# Altium footprint library WE-TVS.PcbLib: 13 footprints
Each footprint in its own frame and in the unit in brackets; x right, y up, seen from the top. Pads: shape width x height; smd on the part's side, far side on the other; paste and mask are expansions set on the pad; w line width, h text height; cw(c..) or ccw(c..) is an arc to the next point about the centre after c.
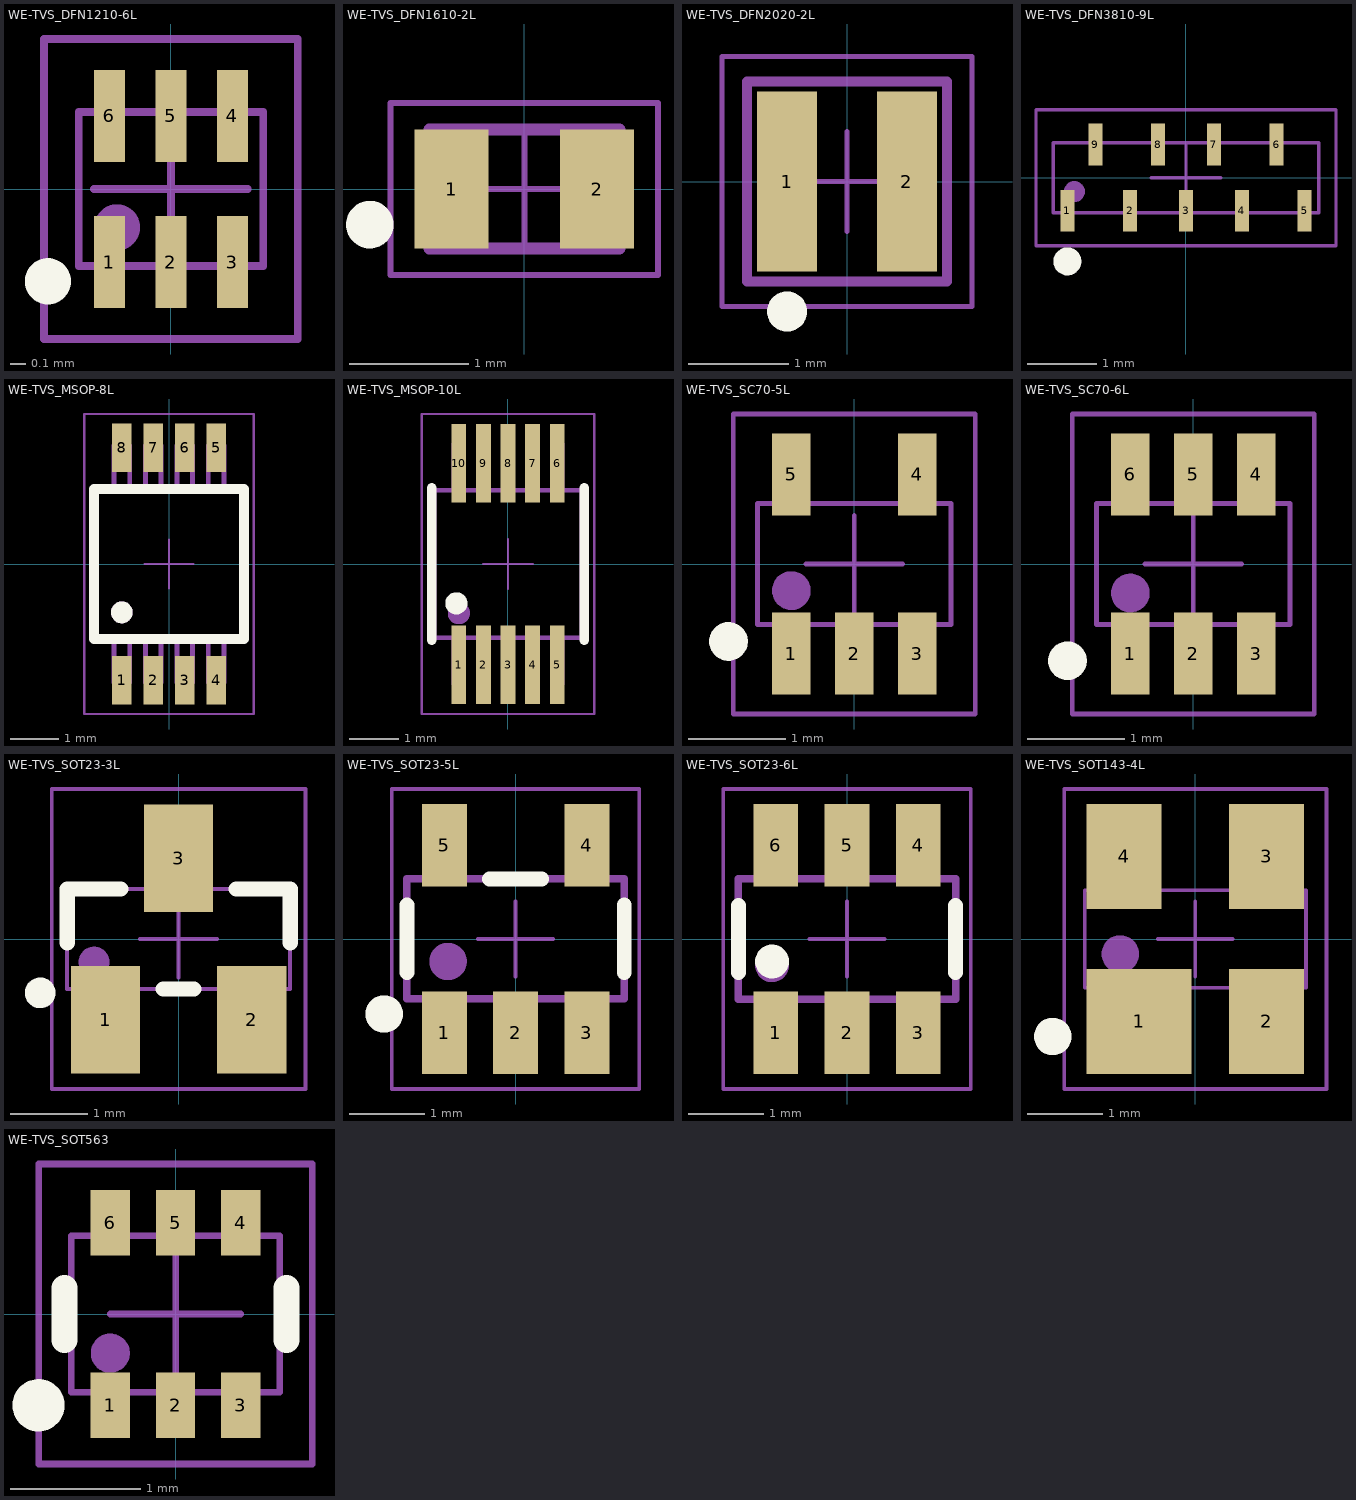
[diagram p0: the footprints below, top view; thin cyan lines are the x and y axes]

## WE-TVS_DFN1210-6L [mm] "TVS Diode, package DFN1210-6L"
height 0.49
pads (6):
  rect 0.2x0.6 smd: 1(-0.4,-0.475) 2(0,-0.475) 3(0.4,-0.475) 4(0.4,0.475) 5(0,0.475) 6(-0.4,0.475)
Top Overlay:
  circle w0.2: c-0.8,-0.6 r0.05
Mechanical 13:
  circle w0.2: c-0.35,-0.25 r0.05
  lines w0.05: -0.6,-0.5 0.6,-0.5 0.6,0.5 -0.6,0.5 -0.6,-0.5
Mechanical 15:
  lines w0.05: -0.5,0 0.5,0 ; 0,-0.5 0,0.5 ; -0.825,-0.975 0.825,-0.975 0.825,0.975 -0.825,0.975 -0.825,-0.975
3D body "STEP-WE-TVS-DFN1210-6L-rev1.stp": height 0.45, standoff 0, extent -0.6,-0.5 0.6,0.5

## WE-TVS_DFN1610-2L [mm] "TVS Diode, package DFN1610-2L"
height 0.55
pads (2):
  rect 0.625x1 smd: 1(-0.613,0) 2(0.613,0)
Top Overlay:
  circle w0.2: c-1.3,-0.3 r0.1
Mechanical 13:
  circle w0.15: c-0.5,-0.2 r0.075
  lines w0.1: 0.8,-0.5 -0.8,-0.5 -0.8,0.5 0.8,0.5 0.8,-0.5
Mechanical 15:
  lines w0.05: -0.5,0 0.5,0 ; 0,-0.5 0,0.5 ; -1.125,-0.725 -1.125,0.725 1.125,0.725 1.125,-0.725 -1.125,-0.725
3D body "STEP-WE-TVS-DFN1610-2L-rev1.stp": height 0.51, standoff 0, extent -0.8,-0.5 0.8,0.5

## WE-TVS_DFN2020-2L [mm] "TVS Diode, package DFN2020-2L"
height 0.55
pads (2):
  rect 0.6x1.8 smd: 1(-0.6,0) 2(0.6,0)
Top Overlay:
  circle w0.2: c-0.6,-1.3 r0.1
Mechanical 13:
  circle w0.2: c-0.6,-0.6 r0.1
  lines w0.1: -1,-1 1,-1 1,1 -1,1 -1,-1
Mechanical 15:
  lines w0.05: -0.5,0 0.5,0 ; 0,-0.5 0,0.5 ; -1.25,-1.25 1.25,-1.25 1.25,1.25 -1.25,1.25 -1.25,-1.25
3D body "DFN2020-2L.stp": height 0.52, standoff 0, extent -1,-1 1,1

## WE-TVS_DFN3810-9L [mm] "TVS Diode, package DFN3810-9L"
height 0.55
pads (9):
  rect 0.2x0.6 smd: 1(-1.7,-0.475) 2(-0.8,-0.475) 3(0,-0.475) 4(0.8,-0.475) 5(1.7,-0.475) 6(1.3,0.475) 7(0.4,0.475) 8(-0.4,0.475) 9(-1.3,0.475)
Top Overlay:
  circle w0.2: c-1.7,-1.2 r0.1
Mechanical 13:
  circle w0.15: c-1.6,-0.2 r0.075
  lines w0.05: -1.9,-0.5 1.9,-0.5 1.9,0.5 -1.9,0.5 -1.9,-0.5
Mechanical 15:
  lines w0.05: -0.5,0 0.5,0 ; 0,-0.5 0,0.5 ; -2.15,-0.975 -2.15,0.975 2.15,0.975 2.15,-0.975 -2.15,-0.975
3D body "STEP-WE-TVS-DFN3810-9L-rev1.stp": height 0.5, standoff 0, extent -1.9,-0.5 1.9,0.5

## WE-TVS_MSOP-8L [mm] "TVS Diode, package MSOP-8L"
height 1.15
pads (8):
  rect 0.4x1 smd: 1(-0.975,-2.4) 2(-0.325,-2.4) 3(0.325,-2.4) 4(0.975,-2.4) 5(0.975,2.4) 6(0.325,2.4) 7(-0.325,2.4) 8(-0.975,2.4)
Top Overlay:
  circle w0.25: c-0.975,-1 r0.1
  lines w0.2: -1.55,-1.55 -1.55,1.55 1.55,1.55 1.55,-1.55 -1.55,-1.55
Mechanical 13:
  circle w0.25: c-0.975,-1 r0.1
  lines w0.1: -1.137,-1.5 -1.137,-2.45 -0.813,-2.45 -0.813,-1.5 ; -1.137,1.5 -1.137,2.45 -0.813,2.45 -0.813,1.5 ; -0.487,-1.5 -0.487,-2.45 -0.162,-2.45 -0.162,-1.5 ; -0.487,1.5 -0.487,2.45 -0.162,2.45 -0.162,1.5 ; 0.163,-1.5 0.163,-2.45 0.487,-2.45 0.487,-1.5 ; 0.163,1.5 0.163,2.45 0.487,2.45 0.487,1.5 ; 0.813,-1.5 0.813,-2.45 1.138,-2.45 1.138,-1.5 ; 0.813,1.5 0.813,2.45 1.138,2.45 1.138,1.5 ; -1.5,-1.5 1.5,-1.5 1.5,1.5 -1.5,1.5 -1.5,-1.5
Mechanical 15:
  lines w0.05: -0.5,0 0.5,0 ; 0,-0.5 0,0.5 ; -1.75,-3.1 1.75,-3.1 1.75,3.1 -1.75,3.1 -1.75,-3.1
3D body "STEP-WE-TVS-SS-MSOP-8L-rev1.stp": height 0.97, standoff -0.01, extent -1.5,-2.45 1.5,2.45

## WE-TVS_MSOP-10L [mm] "TVS Diode, package MSOP-10L"
height 1.15
pads (10):
  rect 0.3x1.6 smd: 1(-1,-2.05) 2(-0.5,-2.05) 3(0,-2.05) 4(0.5,-2.05) 5(1,-2.05) 6(1,2.05) 7(0.5,2.05) 8(0,2.05) 9(-0.5,2.05) 10(-1,2.05)
Top Overlay:
  circle w0.25: c-1.05,-0.8 r0.1
  lines w0.2: -1.55,-1.55 -1.55,1.55 ; 1.55,-1.55 1.55,1.55
Mechanical 13:
  circle w0.25: c-1,-1 r0.1
  lines w0.05: -1.12,-1.5 -1.12,-2.45 -0.88,-2.45 -0.88,-1.5 ; -1.12,1.5 -1.12,2.45 -0.88,2.45 -0.88,1.5 ; -0.62,-1.5 -0.62,-2.45 -0.38,-2.45 -0.38,-1.5 ; -0.62,1.5 -0.62,2.45 -0.38,2.45 -0.38,1.5 ; -0.12,-1.5 -0.12,-2.45 0.12,-2.45 0.12,-1.5 ; -0.12,1.5 -0.12,2.45 0.12,2.45 0.12,1.5 ; 0.38,-1.5 0.38,-2.45 0.62,-2.45 0.62,-1.5 ; 0.38,1.5 0.38,2.45 0.62,2.45 0.62,1.5 ; 0.88,-1.5 0.88,-2.45 1.12,-2.45 1.12,-1.5 ; 0.88,1.5 0.88,2.45 1.12,2.45 1.12,1.5
  lines w0.1: -1.5,-1.5 1.5,-1.5 1.5,1.5 -1.5,1.5 -1.5,-1.5
Mechanical 15:
  lines w0.05: -0.5,0 0.5,0 ; 0,-0.5 0,0.5 ; -1.75,-3.05 1.75,-3.05 1.75,3.05 -1.75,3.05 -1.75,-3.05
3D body "STEP-WE-TVS-SS-MSOP-10L-rev1.stp": height 0.97, standoff -0.01, extent -1.5,-2.45 1.5,2.45

## WE-TVS_SC70-5L [mm] "TVS Diode, package SC70-5L"
height 1.1
pads (5):
  rect 0.4x0.85 smd: 1(-0.65,-0.925) 2(0,-0.925) 3(0.65,-0.925) 4(0.65,0.925) 5(-0.65,0.925)
Top Overlay:
  circle w0.2: c-1.3,-0.8 r0.1
Mechanical 13:
  circle w0.2: c-0.65,-0.275 r0.1
  lines w0.05: -0.8,-0.625 -0.8,-1.1 -0.5,-1.1 -0.5,-0.625 ; -0.8,0.625 -0.8,1.1 -0.5,1.1 -0.5,0.625 ; -0.15,-0.625 -0.15,-1.1 0.15,-1.1 0.15,-0.625 ; 0.5,-0.625 0.5,-1.1 0.8,-1.1 0.8,-0.625 ; 0.5,0.625 0.5,1.1 0.8,1.1 0.8,0.625 ; -1,-0.625 1,-0.625 1,0.625 -1,0.625 -1,-0.625
Mechanical 15:
  lines w0.05: -0.5,0 0.5,0 ; 0,-0.5 0,0.5 ; -1.25,-1.55 -1.25,1.55 1.25,1.55 1.25,-1.55 -1.25,-1.55
3D body "STEP-WE-TVS-SC70-5L-rev1.stp": height 1, standoff 0, extent -1,-1.1 1,1.1

## WE-TVS_SC70-6L [mm] "TVS Diode, package SC70-6L"
height 1.1
pads (6):
  rect 0.4x0.85 smd: 1(-0.65,-0.925) 2(0,-0.925) 3(0.65,-0.925) 4(0.65,0.925) 5(0,0.925) 6(-0.65,0.925)
Top Overlay:
  circle w0.2: c-1.3,-1 r0.1
Mechanical 13:
  circle w0.2: c-0.65,-0.3 r0.1
  lines w0.05: -0.8,-0.625 -0.8,-1.1 -0.5,-1.1 -0.5,-0.625 ; -0.8,0.625 -0.8,1.1 -0.5,1.1 -0.5,0.625 ; -0.15,-0.625 -0.15,-1.1 0.15,-1.1 0.15,-0.625 ; -0.15,0.625 -0.15,1.1 0.15,1.1 0.15,0.625 ; 0.5,-0.625 0.5,-1.1 0.8,-1.1 0.8,-0.625 ; 0.5,0.625 0.5,1.1 0.8,1.1 0.8,0.625 ; -1,-0.625 1,-0.625 1,0.625 -1,0.625 -1,-0.625
Mechanical 15:
  lines w0.05: -0.5,0 0.5,0 ; 0,-0.5 0,0.5 ; -1.25,-1.55 1.25,-1.55 1.25,1.55 -1.25,1.55 -1.25,-1.55
3D body "STEP-WE-TVS-HS-SC70-6L-rev1.stp": height 1, standoff 0, extent -1,-1.1 1,1.1

## WE-TVS_SOT23-3L [mm] "TVS Diode, package SOT23-3L"
height 1.2
pads (3):
  rect 0.9x1.4 smd: 1(-0.95,-1.05) 2(0.95,-1.05) 3(0,1.05)
Top Overlay:
  circle w0.2: c-1.8,-0.7 r0.1
  lines w0.2: -1.45,-0.05 -1.45,0.65 -0.75,0.65 ; -0.2,-0.65 0.2,-0.65 ; 0.75,0.65 1.45,0.65 1.45,-0.05
Mechanical 13:
  circle w0.2: c-1.1,-0.3 r0.1
  lines w0.05: -1.15,-0.65 -1.15,-1.2 -0.75,-1.2 -0.75,-0.65 ; -0.2,0.65 -0.2,1.2 0.2,1.2 0.2,0.65 ; 0.75,-0.65 0.75,-1.2 1.15,-1.2 1.15,-0.65 ; -1.45,-0.65 1.45,-0.65 1.45,0.65 -1.45,0.65 -1.45,-0.65
Mechanical 15:
  lines w0.05: -0.5,0 0.5,0 ; 0,-0.5 0,0.5 ; -1.65,-1.95 1.65,-1.95 1.65,1.95 -1.65,1.95 -1.65,-1.95
3D body "STEP-WE-TVS-SOT23-3L-rev1.stp": height 1.04, standoff 0, extent -1.45,-1.2 1.45,1.2

## WE-TVS_SOT23-5L [mm] "TVS Diode, package SOT23-5L"
height 1.2
pads (5):
  rect 0.6x1.1 smd: 1(-0.95,-1.25) 2(0,-1.25) 3(0.95,-1.25) 4(0.95,1.25) 5(-0.95,1.25)
Top Overlay:
  circle w0.3: c-1.75,-1 r0.1
  lines w0.2: -1.45,-0.45 -1.45,0.45 ; -0.35,0.8 0.35,0.8 ; 1.45,-0.45 1.45,0.45
Mechanical 13:
  circle w0.3: c-0.9,-0.3 r0.1
  lines w0.1: -1.15,-0.8 -1.15,-1.4 -0.75,-1.4 -0.75,-0.8 ; -1.15,0.8 -1.15,1.4 -0.75,1.4 -0.75,0.8 ; -0.2,-0.8 -0.2,-1.4 0.2,-1.4 0.2,-0.8 ; 0.75,-0.8 0.75,-1.4 1.15,-1.4 1.15,-0.8 ; 0.75,0.8 0.75,1.4 1.15,1.4 1.15,0.8 ; -1.45,-0.8 -1.45,0.8 1.45,0.8 1.45,-0.8 -1.45,-0.8
Mechanical 15:
  lines w0.05: -0.5,0 0.5,0 ; 0,-0.5 0,0.5 ; -1.65,-2 1.65,-2 1.65,2 -1.65,2 -1.65,-2
3D body "STEP-WE-TVS-HS-SOT23-5L-rev1.stp": height 1.16, standoff 0, extent -1.45,-1.4 1.45,1.4

## WE-TVS_SOT23-6L [mm] "TVS Diode, package SOT23-6L"
height 1.2
pads (6):
  rect 0.6x1.1 smd: 1(-0.95,-1.25) 2(0,-1.25) 3(0.95,-1.25) 4(0.95,1.25) 5(0,1.25) 6(-0.95,1.25)
Top Overlay:
  circle w0.25: c-1,-0.3 r0.1
  lines w0.2: -1.45,-0.45 -1.45,0.45 ; 1.45,-0.45 1.45,0.45
Mechanical 13:
  circle w0.25: c-1,-0.35 r0.1
  lines w0.1: -1.15,-0.8 -1.15,-1.4 -0.75,-1.4 -0.75,-0.8 ; -1.15,0.8 -1.15,1.4 -0.75,1.4 -0.75,0.8 ; -0.2,-0.8 -0.2,-1.4 0.2,-1.4 0.2,-0.8 ; -0.2,0.8 -0.2,1.4 0.2,1.4 0.2,0.8 ; 0.75,-0.8 0.75,-1.4 1.15,-1.4 1.15,-0.8 ; 0.75,0.8 0.75,1.4 1.15,1.4 1.15,0.8 ; -1.45,-0.8 -1.45,0.8 1.45,0.8 1.45,-0.8 -1.45,-0.8
Mechanical 15:
  lines w0.05: -0.5,0 0.5,0 ; 0,-0.5 0,0.5 ; -1.65,-2 1.65,-2 1.65,2 -1.65,2 -1.65,-2
3D body "STEP-WE-TVS-SS-SOT23-6L-rev1.stp": height 1.16, standoff 0, extent -1.45,-1.4 1.45,1.4

## WE-TVS_SOT143-4L [mm] "TVS Diode, package SOT143-4L"
height 1.2
pads (4):
  rect 1.4x1.4 smd: 1(-0.75,-1.1)
  rect 1x1.4 smd: 2(0.95,-1.1) 3(0.95,1.1) 4(-0.95,1.1)
Top Overlay:
  circle w0.3: c-1.9,-1.3 r0.1
Mechanical 13:
  circle w0.3: c-1,-0.2 r0.1
  lines w0.05: -1.162,-0.65 -1.162,-1.2 -0.337,-1.2 -0.337,-0.65 ; -1.162,0.65 -1.162,1.2 -0.738,1.2 -0.738,0.65 ; 0.737,-0.65 0.737,-1.2 1.162,-1.2 1.162,-0.65 ; 0.737,0.65 0.737,1.2 1.162,1.2 1.162,0.65 ; -1.475,-0.65 -1.475,0.65 1.475,0.65 1.475,-0.65 -1.475,-0.65
Mechanical 15:
  lines w0.05: -0.5,0 0.5,0 ; 0,-0.5 0,0.5 ; -1.75,-2 -1.75,2 1.75,2 1.75,-2 -1.75,-2
3D body "STEP-WE-TVS-HS-SOT143-4L-rev1.stp": height 1.05, standoff -0.01, extent -1.46,-1.2 1.46,1.2

## WE-TVS_SOT563 [mm] "TVS Diode, package SOT563"
height 0.6
pads (6):
  rect 0.3x0.5 smd: 1(-0.5,-0.7) 2(0,-0.7) 3(0.5,-0.7) 4(0.5,0.7) 5(0,0.7) 6(-0.5,0.7)
Top Overlay:
  circle w0.2: c-1.05,-0.7 r0.1
  lines w0.2: -0.85,-0.2 -0.85,0.2 ; 0.85,-0.2 0.85,0.2
Mechanical 13:
  circle w0.15: c-0.5,-0.3 r0.075
  lines w0.05: -0.61,-0.6 -0.61,-0.8 -0.39,-0.8 -0.39,-0.6 ; -0.61,0.6 -0.61,0.8 -0.39,0.8 -0.39,0.6 ; -0.11,-0.6 -0.11,-0.8 0.11,-0.8 0.11,-0.6 ; -0.11,0.6 -0.11,0.8 0.11,0.8 0.11,0.6 ; 0.39,-0.6 0.39,-0.8 0.61,-0.8 0.61,-0.6 ; 0.39,0.6 0.39,0.8 0.61,0.8 0.61,0.6 ; -0.8,-0.6 -0.8,0.6 0.8,0.6 0.8,-0.6 -0.8,-0.6
Mechanical 15:
  lines w0.05: -0.5,0 0.5,0 ; 0,-0.5 0,0.5 ; -1.05,-1.15 -1.05,1.15 1.05,1.15 1.05,-1.15 -1.05,-1.15
3D body "STEP-WE-TVS-HS-SOT563-rev1.stp": height 0.54, standoff -0.01, extent -0.8,-0.8 0.8,0.8